# Altium footprint library EmbSD Lib 0v1.PcbLib: 17 footprints (part 1 of 2)
Each footprint in its own frame and in the unit in brackets; x right, y up, seen from the top. Pads: shape width x height; smd on the part's side, far side on the other; paste and mask are expansions set on the pad; w line width, h text height; cw(c..) or ccw(c..) is an arc to the next point about the centre after c.
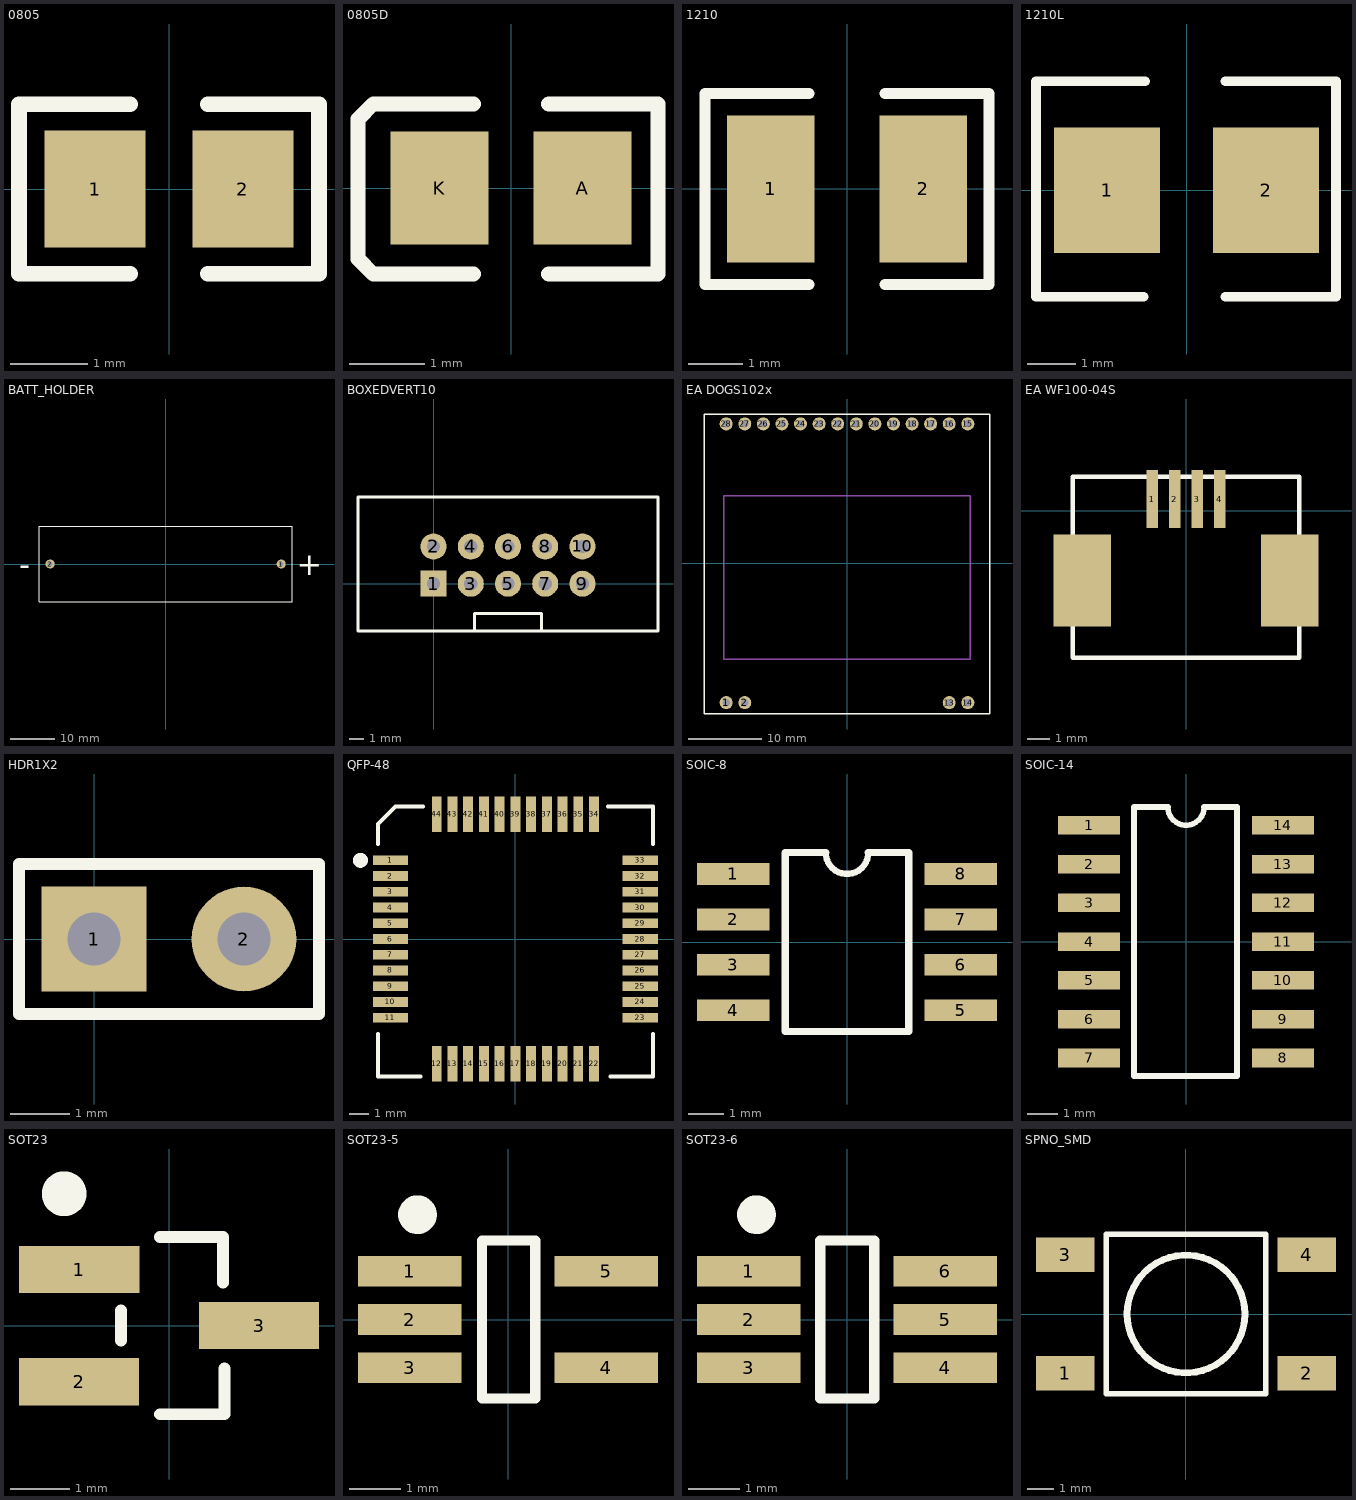
[diagram p0: the footprints below, top view; thin cyan lines are the x and y axes]

## 0805 [mm] "0805 Footprint"
height 1
pads (2):
  rect 1.3x1.5 smd: 1(-0.95,0) 2(0.95,0)
Top Overlay:
  lines w0.2: -0.5,-1.092 -1.93,-1.092 -1.93,1.092 -0.5,1.092 ; 0.5,-1.092 1.93,-1.092 1.93,1.092 0.5,1.092
3D body: height 0.8, standoff 0.02, extent -1.025,-0.64 0.975,0.61

## 0805D [mm] "0805 Diode"
height 1
pads (2):
  rect 1.3x1.5 smd: A(0.95,0) K(-0.95,0)
Top Overlay:
  lines w0.2: -0.5,-1.143 -1.829,-1.143 -2.032,-0.94 -2.032,0.914 -1.829,1.118 -0.5,1.118 ; 0.5,-1.143 1.95,-1.143 1.95,1.118 0.5,1.118
3D body: height 1.1, standoff 0, extent -1.01,-0.625 1.01,0.625

## 1210 [mm]
height 1
pads (2):
  rect 1.6x2.7 smd: 1(-1.4,0) 2(1.4,0)
Top Overlay:
  lines w0.2: -0.7,-1.75 -2.6,-1.75 -2.6,1.75 -0.7,1.75 ; 0.7,-1.75 2.6,-1.75 2.6,1.75 0.7,1.75
3D body: height 1.72, standoff 0.02, extent -2,-1.244 2,1.245

## 1210L [mm] "Precision Wire Wound Inductor, 2-Leads, Body 3.2x3.2mm, IPC Low Density"
height 2.2
pads (2):
  rect 2.2x2.6 smd: 1(-1.651,0) 2(1.651,0)
Top Overlay:
  lines w0.2: -0.889,-2.21 -3.124,-2.21 -3.124,2.261 -0.864,2.261 ; 0.805,-2.21 3.099,-2.21 3.099,2.261 0.805,2.261
3D body: height 2.2, standoff 0, extent -1.75,-1.75 1.75,1.75

## BATT_HOLDER [mm]
height 12
pads (2):
  round 2.032 hole 1.1: 1(26,0) 2(-26,0)
Top Overlay:
  lines w0.254: -28.5,-8.5 -28.5,8.5 28.5,8.5 28.5,-8.5 -28.5,-8.5
  text "-" at -33,-2.5 h5
  text "+" at 29.5,-2.5 h5

## BOXEDVERT10 [mil] "IDC Header 2.54mm Boxed 10 pins"
height 346.46
pads (10):
  rect 70x70 hole 35.43: 1(0,0)
  round 70 hole 35.43: 2(0,100) 3(100,0) 4(100,100) 5(200,0) 6(200,100) 7(300,0) 8(300,100) 9(400,0) 10(400,100)
Top Overlay:
  lines w7.87: 110,-123.31 110,-80 290,-80 290,-123.31 ; -203,-126.5 -203,232.41 603,232.41 603,-126.5 -203,-126.5
3D body: height 358.87, standoff -117.51, extent -203.54,-129.13 603.55,237.01

## EA DOGS102x [mil] "graphics display footprint"
height 472.44
pads (18):
  round 70 hole 39.37: 1(-650,-750) 2(-550,-750) 13(550,-750) 14(650,-750) 15(650,750) 16(550,750) 17(450,750) 18(350,750) 19(250,750) 20(150,750) 21(50,750) 22(-50,750) 23(-150,750) 24(-250,750) 25(-350,750) 26(-450,750) 27(-550,750) 28(-650,750)
Top Overlay:
  lines w8: -767.72,-811.02 -767.72,803.15 767.72,803.15 767.72,-811.02 -767.72,-811.02
Mechanical 15:
  lines w8: -662.4,-517.52 662.4,-517.52 662.4,363.98 -662.4,363.98 -662.4,-517.52
3D body: height 213.2, standoff -145.07, extent -767.72,-807.09 767.72,807.09

## EA WF100-04S [mil] "ZIF touchscreen connector"
height 472.44
pads (6):
  rect 20x100.83 smd: 1(-59.06,20) 2(-19.68,20) 3(19.69,20) 4(59.06,20)
  rect 100x160 smd: ""(-180.83,-121.06) ""(180.83,-121.06)
Top Overlay:
  lines w8: -196.85,-255.91 -196.85,59.06 196.85,59.06 196.85,-255.91 -196.85,-255.91
3D body: height 106.89, standoff 0.6, extent -194,-226.95 191.83,28.95

## HDR1X2 [mil] "Connector; Header; 2 Position"
height 472.44
pads (2):
  rect 70x70 hole 35.43: 1(0,0)
  round 70 hole 35.43: 2(100,0)
Top Overlay:
  lines w7.87: -50,-50 -50,50 150,50 150,-50 -50,-50
3D body: height 332.89, standoff -99.4, extent -50,-50 150,50

## QFP-48 [mm]
height 1
pads (44):
  rect 1.8x0.5 smd: 1(-6.35,4) 2(-6.35,3.2) 3(-6.35,2.4) 4(-6.35,1.6) 5(-6.35,0.8) 6(-6.35,0) 7(-6.35,-0.8) 8(-6.35,-1.6) 9(-6.35,-2.4) 10(-6.35,-3.2) 11(-6.35,-4) 23(6.35,-4) 24(6.35,-3.2) 25(6.35,-2.4) 26(6.35,-1.6) 27(6.35,-0.8) 28(6.35,0) 29(6.35,0.8) 30(6.35,1.6) 31(6.35,2.4) 32(6.35,3.2) 33(6.35,4)
  rect 0.5x1.8 smd: 12(-4,-6.35) 13(-3.2,-6.35) 14(-2.4,-6.35) 15(-1.6,-6.35) 16(-0.8,-6.35) 17(0,-6.35) 18(0.8,-6.35) 19(1.6,-6.35) 20(2.4,-6.35) 21(3.2,-6.35) 22(4,-6.35) 34(4,6.35) 35(3.2,6.35) 36(2.4,6.35) 37(1.6,6.35) 38(0.8,6.35) 39(0,6.35) 40(-0.8,6.35) 41(-1.6,6.35) 42(-2.4,6.35) 43(-3.2,6.35) 44(-4,6.35)
Top Overlay:
  circle w0.508: c-7.875,4 r0.125
  lines w0.203: -6.985,-4.826 -6.985,-6.985 -4.826,-6.985 ; -6.985,4.826 -6.985,5.842 -6.096,6.731 -4.699,6.731 ; 4.699,6.731 6.985,6.731 6.985,4.826 ; 4.826,-6.985 6.985,-6.985 6.985,-4.826
3D body: height 1.13, standoff 0.02, extent -5.974,-6 6.026,6

## SOIC-8 [mil] "SOIC-8 Footprint"
height 68.9
pads (8):
  rect 80x24 smd: 1(-125,75) 2(-125,25) 3(-125,-25) 4(-125,-75) 5(125,-75) 6(125,-25) 7(125,25) 8(125,75)
Top Overlay:
  lines w7: -23.43,98.42 ccw(c0,98.42) 23.43,98.42
  lines w7.87: -23.43,98.43 -68,98.43 -68,-98.43 68,-98.43 68,98.43 23.43,98.43
3D body: height 66.93, standoff 0, extent -117.17,-98.43 119.05,94.49

## SOIC-14 [mil] "SOIC-14 Footprint"
height 68.9
pads (14):
  rect 80x24 smd: 1(-125,150) 2(-125,100) 3(-125,50) 4(-125,0) 5(-125,-50) 6(-125,-100) 7(-125,-150)
  rect 80x24.02 smd: 8(125,-150) 9(125,-100) 10(125,-50) 11(125,0) 12(125,50) 13(125,100) 14(125,150)
Top Overlay:
  lines w7: -23.43,173.43 ccw(c0,173.43) 23.43,173.43
  lines w7.87: -23.43,173.43 -67,173.43 -67,-173.43 66,-173.43 66,173.43 23.43,173.43
3D body: height 61.02, standoff 0, extent -118.11,-170.27 118.11,170.28

## SOT23 [mm] "SOT23, 3-Leads, Body 3.0x2.5mm (max), Pitch 0.95mm, IPC Low Density"
height 1.35
pads (3):
  rect 2.038x0.8 smd: 1(-1.524,0.95)
  rect 2.032x0.8 smd: 2(-1.524,-0.95) 3(1.524,0)
Top Overlay:
  circle w0.508: c-1.776,2.235 r0.125
  lines w0.2: -0.813,-0.254 -0.813,0.254 ; -0.152,-1.5 0.94,-1.5 0.94,-0.725 ; -0.152,1.5 0.914,1.5 0.914,0.725
3D body: height 1.08, standoff 0, extent -1.32,-1.5 1.32,1.5

## SOT23-5 [mm]
height 1.45
pads (5):
  rect 2.032x0.6 smd: 1(-1.929,0.95) 2(-1.929,0) 3(-1.929,-0.95) 4(1.929,-0.95) 5(1.929,0.95)
Top Overlay:
  circle w0.508: c-1.776,2.057 r0.125
  lines w0.2: -0.508,-1.55 0.533,-1.55 0.533,1.55 -0.508,1.55 -0.508,-1.55
3D body: height 1.02, standoff 0.02, extent -1.17,-1.46 1.17,1.46

## SOT23-6 [mm]
height 1.45
pads (6):
  rect 2.032x0.6 smd: 1(-1.929,0.95) 2(-1.929,0) 3(-1.929,-0.95) 4(1.929,-0.95) 5(1.929,0) 6(1.929,0.95)
Top Overlay:
  circle w0.508: c-1.776,2.057 r0.125
  lines w0.2: -0.525,-1.55 0.533,-1.55 0.533,1.55 -0.525,1.55 -0.525,-1.55
3D body: height 1.42, standoff 0.02, extent -1.497,-1.559 1.503,1.489

## SPNO_SMD [mm] "SP NO SMD Tactile switch"
height 12
pads (4):
  rect 2.2x1.3 smd: 1(-4.55,-2.225) 2(4.55,-2.225) 3(-4.55,2.225) 4(4.55,2.225)
Top Overlay:
  circle w0.254: c0,0 r2.218
  lines w0.2: -3,-3 -3,3 3,3 3,-3 -3,-3
3D body: height 4.32, standoff 0.02, extent -4.25,-3.3 4.25,3.3